# Altium schematic symbol library Keyboard2025.SCHLIB: 96 symbols
Pins are listed as number, name and electrical type; pins without a type are passive.

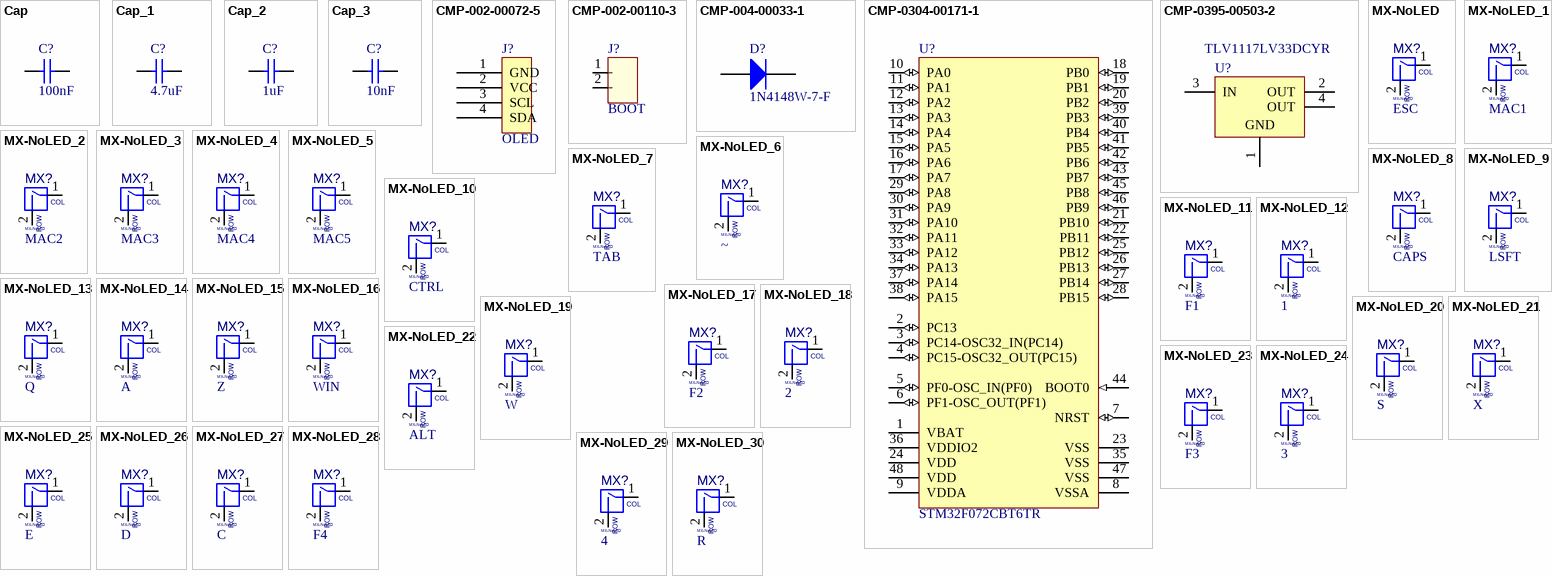
[diagram p0: symbols Cap to MX-NoLED_30]

## Cap
designator C?  value 100nF  (hidden comment: Cap)
Capacitor; Published: 8-Jun-2000; LatestRevisionDate: 17-Jul-2002; LatestRevisionNote: Re-released for DXP Platform.; PackageReference: RAD-0.3; Publisher: Altium Limited; PackageDescription: Radial Cap, Thru-Hole; 2 Leads; 0.3 in Pin Spacing
footprint RAD-0.3 (Radial Cap, Thru-Hole; 2 Leads; 0.3 in Pin Spacing)
simulation model CAP (Capacitor)
signal-integrity model Cap
footprint C0805 (Chip Capacitor, Body 2.0x1.3mm, IPC High Density)
pins: 1, 2

## Cap_1
designator C?, comment value 4.7uF  (hidden comment: Cap)
Capacitor; Published: 8-Jun-2000; LatestRevisionDate: 17-Jul-2002; LatestRevisionNote: Re-released for DXP Platform.; PackageReference: RAD-0.3; Publisher: Altium Limited; PackageDescription: Radial Cap, Thru-Hole; 2 Leads; 0.3 in Pin Spacing
footprint RAD-0.3 (Radial Cap, Thru-Hole; 2 Leads; 0.3 in Pin Spacing)
simulation model CAP (Capacitor)
signal-integrity model Cap
footprint C0805 (Chip Capacitor, Body 2.0x1.3mm, IPC High Density)
pins: 1, 2

## Cap_2
designator C?, comment value 1uF  (hidden comment: Cap)
Capacitor; Published: 8-Jun-2000; LatestRevisionDate: 17-Jul-2002; LatestRevisionNote: Re-released for DXP Platform.; PackageReference: RAD-0.3; Publisher: Altium Limited; PackageDescription: Radial Cap, Thru-Hole; 2 Leads; 0.3 in Pin Spacing
footprint RAD-0.3 (Radial Cap, Thru-Hole; 2 Leads; 0.3 in Pin Spacing)
simulation model CAP (Capacitor)
signal-integrity model Cap
footprint C0805 (Chip Capacitor, Body 2.0x1.3mm, IPC High Density)
pins: 1, 2

## Cap_3
designator C?, comment value 10nF  (hidden comment: Cap)
Capacitor; Published: 8-Jun-2000; LatestRevisionDate: 17-Jul-2002; LatestRevisionNote: Re-released for DXP Platform.; PackageReference: RAD-0.3; Publisher: Altium Limited; PackageDescription: Radial Cap, Thru-Hole; 2 Leads; 0.3 in Pin Spacing
footprint RAD-0.3 (Radial Cap, Thru-Hole; 2 Leads; 0.3 in Pin Spacing)
simulation model CAP (Capacitor)
signal-integrity model Cap
footprint C0805 (Chip Capacitor, Body 2.0x1.3mm, IPC High Density)
pins: 1, 2

## CMP-002-00072-5
designator J?, comment OLED
4 pin header; Component Type: Connectors
footprint SSD1306-0.91-OLED-4pin-128x32
pins: 1 GND, 2 VCC, 3 SCL, 4 SDA

## CMP-002-00110-3
designator J?, comment BOOT
VALUE: HDRM2; Pins: 2; Design Item ID: HDR_1X2; Component Type: Standard; Source: Conn Header.SchLib; Component Type: Connectors
footprint HDR_1X2 (Connector; Header; 2 Position)
pins: 1, 2

## CMP-004-00033-1
designator D?, comment 1N4148W-7-F
Rectifier Diode, 1 Phase, 1 Element, 0.15A, 100V V(RRM), Silicon; Manufacturer: Diodes; Forward Voltage: 715mV; Non-rep Pk Forward Current-Max: 1A; Number of Elements: 1; Time @ Peak Reflow Temperature-Max (s): 40s; Reverse Recovery Time-Max: 0.004us; Qualification Status: Not Qualified; Max Output current: 150mA; Max Power Dissipation: 400mW; Additional Feature: HIGH RELIABILITY; Package Body Material: Plastic; Min Operating Temperature: -65°C; Pins: 2; Max Operating Temperature: 150°C; RoHS Compliant: Yes; Diode Type: RECTIFIER; Peak Reflow Temperature (Cel): 260°C; Package Shape: Rectangular; Terminal Finish: Tin; Moisture Sensitivity Level: 1; Surface Mount: Yes; Reach SVHC Compliant: Yes; Diode Element Material: SILICON; JESD-30 Code: R-PDSO-G2; Terminal Form: Gull Wing; Rep Pk Reverse Voltage-Max: 100V; Terminal Position: DUAL; JESD-609 Code: e3; Package Style: SMALL OUTLINEMeter; Manufacturer Part Number: 1N4148W-7-F; Component Type: Diodes
footprint DIOD-SOD123-2_V (SOD123, 2-Leads, Body 2.7x1.55mm, Height 1.45mm)
pins: 1 A, 2 K

## CMP-0304-00171-1
designator U?, comment STM32F072CBT6TR
ARM Cortex-M0 32-bit MCU, 128 KB Flash, 16 KB Internal RAM, 37 I/Os, 48-Pin LQFP, -40 to 85 degC, Tape and Reel; FLASH Size (Prog) (kB): 128; D/A Converter: 1; Operating Frequency(F) (Processor speed) (MHz): 48; Supply Voltage(Vcc) min (V): 2; I/Os (High Current): 37; Internal RAM Size (kB): 16; ComponentLink1URL: http://www.st.com/; DatasheetVersion: Rev. 5; Mounting Technology: Surface Mount; Packing: Tape and Reel; ComponentLink2Description: Datasheet; ComponentLink2URL: http://www.st.com/st-web-ui/static/active/en/resource/technical/document/datasheet/DM00090510.pdf; ComponentLink1Description: Manufacturer URL; Package Reference: LQFP48; Core: ARM Cortex-M0; Package Description: 48-Pin Low Profile Quad Flat Package, Body 7 x 7 mm, Pitch 0.5 mm
footprint STM-LQFP48_M (QFP, 48-Leads, Body 7x7mm, Pitch 0.5mm, IPC Low Density)
footprint STM-LQFP48_N (QFP, 48-Leads, Body 7x7mm, Pitch 0.5mm, IPC Medium Density)
footprint STM-LQFP48_L (QFP, 48-Leads, Body 7x7mm, Pitch 0.5mm, IPC High Density)
pins: 1 VBAT (power) "Backup power supply", 2 PC13 (io) "PC13/WKUP2,RTC_TAMP1,RTC_TS,RTC_OUT", 3 PC14-OSC32_IN(PC14) (io) "PC14-OSC32_IN(PC14)/OSC32_IN", 4 PC15-OSC32_OUT(PC15) (io) "PC15-OSC32_OUT(PC15)/OSC_OUT", 5 PF0-OSC_IN(PF0) (io) "PF0-OSC_IN(PF0)/CRS_SYNC/OSC_IN", 6 PF1-OSC_OUT(PF1) (io) "PF1-OSC_OUT(PF1)/OSC_OUT", 7 NRST (io) "Device reset input/internal reset output(active low)", 8 VSSA (power) "Analog ground", 9 VDDA (power) "Analog power supply", 10 PA0 (io) "PA0/USART2_CTS,TIM2_CH1_ETR,COMP1_OUT,TSC_G1_IO1,USART4_TX/RTC_TAMP2,WKUP1,ADC_IN0,COMP1_INM6", 11 PA1 (io) "PA1/USART2_RTS,TIM2_CH2,TIM15_CH1N,TSC_G1_IO2,USART4_RX,EVENTOUT/ADC_IN1,COMP1_INP", 12 PA2 (io) "PA2/USART2_TX,COMP2_OUT,TIM2_CH3,TIM15_CH1,TSC_G1_IO3/ADC_IN2,COMP2_INM6,WKUP4", 13 PA3 (io) "PA3/USART2_RX,TIM2_CH4,TIM15_CH2,TSC_G1_IO4/ADC_IN3,COMP2_INP", 14 PA4 (io) "PA4/SPI1_NSS,I2S1_WS,TIM14_CH1,TSC_G2_IO1,USART2_CK/COMP1_INM4,COMP2_INM4,ADC_IN4,DAC_OUT1", 15 PA5 (io) "PA5/SPI1_SCK,I2S1_CK,CEC,TIM2_CH1_ETR,TSC_G2_IO2/COMP1_INM5,COMP2_INM5,ADC_IN5,DAC_OUT2", 16 PA6 (io) "PA6/SPI1_MISO,I2S1_MCK,TIM3_CH1,TIM1_BKIN,TIM16_CH1,COMP1_OUT,TSC_G2_IO3,EVENTOUT,USART3_CTS/ADC_IN6", 17 PA7 (io) "PA7/SPI1_MOSI,I2S1_SD,TIM3_CH2,TIM14_CH1,TIM1_CH1N,TIM17_CH1,COMP2_OUT,TSC_G2_IO4,EVENTOUT/ADC_IN7", 18 PB0 (io) "PB0/TIM3_CH3,TIM1_CH2N,TSC_G3_IO2,EVENTOUT,USART3_CK/ADC_IN8", 19 PB1 (io) "PB1/TIM3_CH4,USART3_RTS,TIM14_CH1,TIM1_CH3N,TSC_G3_IO3/ADC_IN9", 20 PB2 (io) "PB2/TSC_G3_IO4", 21 PB10 (io) "PB10/SPI2_SCK,I2C2_SCL,USART3_TX,CEC,TSC_SYNC,TIM2_CH3", 22 PB11 (io) "PB11/USART3_RX,TIM2_CH4,EVENTOUT,TSC_G6_IO1,I2C2_SDA", 23 VSS (power) "Ground", 24 VDD (power) "Digital power supply", 25 PB12 (io) "PB12/TIM1_BKIN,TIM15_BKIN,SPI2_NSS,I2S2_WS,USART3_CK,TSC_G6_IO2,EVENTOUT", 26 PB13 (io) "PB13/SPI2_SCK,I2S2_CK,I2C2_SCL,USART3_CTS,TIM1_CH1N,TSC_G6_IO3", 27 PB14 (io) "PB14/SPI2_MISO,I2S2_MCK,I2C2_SDA,USART3_RTS,TIM1_CH2N,TIM15_CH1,TSC_G6_IO4", 28 PB15 (io) "PB15/SPI2_MOSI,I2S2_SD,TIM1_CH3N,TIM15_CH1N,TIM15_CH2/WKUP7,RTC_REFIN", 29 PA8 (io) "PA8/USART1_CK,TIM1_CH1,EVENTOUT,MCO,CRS_SYNC", 30 PA9 (io) "PA9/USART1_TX,TIM1_CH2,TIM15_BKIN,TSC_G4_IO1", 31 PA10 (io) "PA10/USART1_RX,TIM1_CH3,TIM17_BKIN,TSC_G4_IO2", 32 PA11 (io) "PA11/CAN_RX,USART1_CTS,TIM1_CH4,COMP1_OUT,TSC_G4_IO3,EVENTOUT/USB_DM", 33 PA12 (io) "PA12/CAN_TX,USART1_RTS,TIM1_ETR,COMP2_OUT,TSC_G4_IO4,EVENTOUT/USB_DP", 34 PA13 (io) "PA13/IR_OUT,SWDIO,USB_NOE", 35 VSS (power) "Ground", 36 VDDIO2 (power) "Digital power supply", 37 PA14 (io) "PA14/USART2_TX,SWCLK", 38 PA15 (io) "PA15/SPI1_NSS,I2S1_WS,USART2_RX,USART4_RTS,TIM2_CH1_ETR,EVENTOUT", 39 PB3 (io) "PB3/SPI1_SCK,I2S1_CK,TIM2_CH2,TSC_G5_IO1,EVENTOUT", 40 PB4 (io) "PB4/SPI1_MISO,I2S1_MCK,TIM17_BKIN,TIM3_CH1,TSC_G5_IO2,EVENTOUT", 41 PB5 (io) "PB5/SPI1_MOSI,I2S1_SD,I2C1_SMBA,TIM16_BKIN,TIM3_CH2/WKUP6", 42 PB6 (io) "PB6/I2C1_SCL,USART1_TX,TIM16_CH1N,TSC_G5_IO3", 43 PB7 (io) "PB7/I2C1_SDA,USART1_RX,USART4_CTS,TIM17_CH1N,TSC_G5_IO4", 44 BOOT0 (in) "Boot memory selection", 45 PB8 (io) "PB8/I2C1_SCL,CEC,TIM16_CH1,TSC_SYNC,CAN_RX", 46 PB9 (io) "PB9/SPI2_NSS,I2S2_WS,I2C1_SDA,IR_OUT,TIM17_CH1,EVENTOUT,CAN_TX", 47 VSS (power) "Ground", 48 VDD (power) "Digital power supply"

## CMP-0395-00503-2
designator U?, comment TLV1117LV33DCYR
Single Output LDO, 1 A, Fixed 3.3 V Output, 2 to 5.5 V Input, 4-pin SOT-223 (DCY), -40 to 125 degC, Green (RoHS & no Sb/Br); Manufacturer: Texas Instruments; Vout Adj(Min)(V): 3.3; Vdo(Typ)(mV): 1200; Iq(Typ)(mA): 0.05; Accuracy(%): 2; Iout(Max)(A): 1; SubFamily: Single Channel LDO; Vin(Max)(V): 5.5; PackageReference: DCY0004A; PackageDescription: 4-Pin Plastic Small Outline, Body 3.5 x 6.5 mm, Pitch 2.3 mm; Vout Adj(Max)(V): 3.3; Mounting Technology: Surface Mount; ComponentLink2Description: Datasheet; ComponentLink1Description: Manufacturer URL; PartNumber: TLV1117LV33DCYR; ComponentLink3Description: Package Specification; ComponentLink1URL: http://www.ti.com/; ComponentLink2URL: http://www.ti.com/general/docs/lit/getliterature.tsp?genericPartNumber=TLV1117LV33&fileType=pdf; Fixed Output Options(V): 3.3; PackageVersion: 4202506/B; Vin(Min)(V): 2; DatasheetVersion: SBVS160A; Eco-Plan: Green (RoHS & no Sb/Br); ComponentLink3URL: http://www.ti.com/litv/pdf/mpds094a; Code_JEDEC: TO-261
footprint DCY0004A_N (SOT223, 4-Leads, Body 6.7x3.7mm, Pitch 2.3mm, IPC Medium Density)
footprint DCY0004A_L (SOT223, 4-Leads, Body 6.7x3.7mm, Pitch 2.3mm, IPC High Density)
footprint DCY0004A_M (SOT223, 4-Leads, Body 6.7x3.7mm, Pitch 2.3mm, IPC Low Density)
pins: 1 GND (power) "Ground pin", 2 OUT (power) "Regulated output voltage pin.", 3 IN (power) "Input pin.", 4 OUT (power) "Regulated output voltage pin."

## MX-NoLED
designator MX?, comment ESC  value MX-NoLED
footprint MXOnly-1U - duplicate
pins: 1 COL, 2 ROW

## MX-NoLED_1
designator MX?, comment MAC1  value MX-NoLED
footprint MXOnly-1U - duplicate
pins: 1 COL, 2 ROW

## MX-NoLED_2
designator MX?, comment MAC2  value MX-NoLED
footprint MXOnly-1U - duplicate
pins: 1 COL, 2 ROW

## MX-NoLED_3
designator MX?, comment MAC3  value MX-NoLED
footprint MXOnly-1U - duplicate
pins: 1 COL, 2 ROW

## MX-NoLED_4
designator MX?, comment MAC4  value MX-NoLED
footprint MXOnly-1U - duplicate
pins: 1 COL, 2 ROW

## MX-NoLED_5
designator MX?, comment MAC5  value MX-NoLED
footprint MXOnly-1U - duplicate
pins: 1 COL, 2 ROW

## MX-NoLED_6
designator MX?, comment ~  value MX-NoLED
footprint MXOnly-1U - duplicate
pins: 1 COL, 2 ROW

## MX-NoLED_7
designator MX?, comment TAB  value MX-NoLED
footprint MXOnly-1U - duplicate
footprint MXOnly-1.5U - duplicate
pins: 1 COL, 2 ROW

## MX-NoLED_8
designator MX?, comment CAPS  value MX-NoLED
footprint MXOnly-1U - duplicate
footprint MXOnly-1.75U - duplicate
pins: 1 COL, 2 ROW

## MX-NoLED_9
designator MX?, comment LSFT  value MX-NoLED
footprint MXOnly-1U - duplicate
footprint MXOnly-2.25U - duplicate
pins: 1 COL, 2 ROW

## MX-NoLED_10
designator MX?, comment CTRL  value MX-NoLED
footprint MXOnly-1.25U - duplicate
pins: 1 COL, 2 ROW

## MX-NoLED_11
designator MX?, comment F1  value MX-NoLED
footprint MXOnly-1U - duplicate
pins: 1 COL, 2 ROW

## MX-NoLED_12
designator MX?, comment 1  value MX-NoLED
footprint MXOnly-1U - duplicate
pins: 1 COL, 2 ROW

## MX-NoLED_13
designator MX?, comment Q  value MX-NoLED
footprint MXOnly-1U - duplicate
pins: 1 COL, 2 ROW

## MX-NoLED_14
designator MX?, comment A  value MX-NoLED
footprint MXOnly-1U - duplicate
pins: 1 COL, 2 ROW

## MX-NoLED_15
designator MX?, comment Z  value MX-NoLED
footprint MXOnly-1U - duplicate
pins: 1 COL, 2 ROW

## MX-NoLED_16
designator MX?, comment WIN  value MX-NoLED
footprint MXOnly-1.25U - duplicate
pins: 1 COL, 2 ROW

## MX-NoLED_17
designator MX?, comment F2  value MX-NoLED
footprint MXOnly-1U - duplicate
pins: 1 COL, 2 ROW

## MX-NoLED_18
designator MX?, comment 2  value MX-NoLED
footprint MXOnly-1U - duplicate
pins: 1 COL, 2 ROW

## MX-NoLED_19
designator MX?, comment W  value MX-NoLED
footprint MXOnly-1U - duplicate
pins: 1 COL, 2 ROW

## MX-NoLED_20
designator MX?, comment S  value MX-NoLED
footprint MXOnly-1U - duplicate
pins: 1 COL, 2 ROW

## MX-NoLED_21
designator MX?, comment X  value MX-NoLED
footprint MXOnly-1U - duplicate
pins: 1 COL, 2 ROW

## MX-NoLED_22
designator MX?, comment ALT  value MX-NoLED
footprint MXOnly-1.25U - duplicate
pins: 1 COL, 2 ROW

## MX-NoLED_23
designator MX?, comment F3  value MX-NoLED
footprint MXOnly-1U - duplicate
pins: 1 COL, 2 ROW

## MX-NoLED_24
designator MX?, comment 3  value MX-NoLED
footprint MXOnly-1U - duplicate
pins: 1 COL, 2 ROW

## MX-NoLED_25
designator MX?, comment E  value MX-NoLED
footprint MXOnly-1U - duplicate
pins: 1 COL, 2 ROW

## MX-NoLED_26
designator MX?, comment D  value MX-NoLED
footprint MXOnly-1U - duplicate
pins: 1 COL, 2 ROW

## MX-NoLED_27
designator MX?, comment C  value MX-NoLED
footprint MXOnly-1U - duplicate
pins: 1 COL, 2 ROW

## MX-NoLED_28
designator MX?, comment F4  value MX-NoLED
footprint MXOnly-1U - duplicate
pins: 1 COL, 2 ROW

## MX-NoLED_29
designator MX?, comment 4  value MX-NoLED
footprint MXOnly-1U - duplicate
pins: 1 COL, 2 ROW

## MX-NoLED_30
designator MX?, comment R  value MX-NoLED
footprint MXOnly-1U - duplicate
pins: 1 COL, 2 ROW

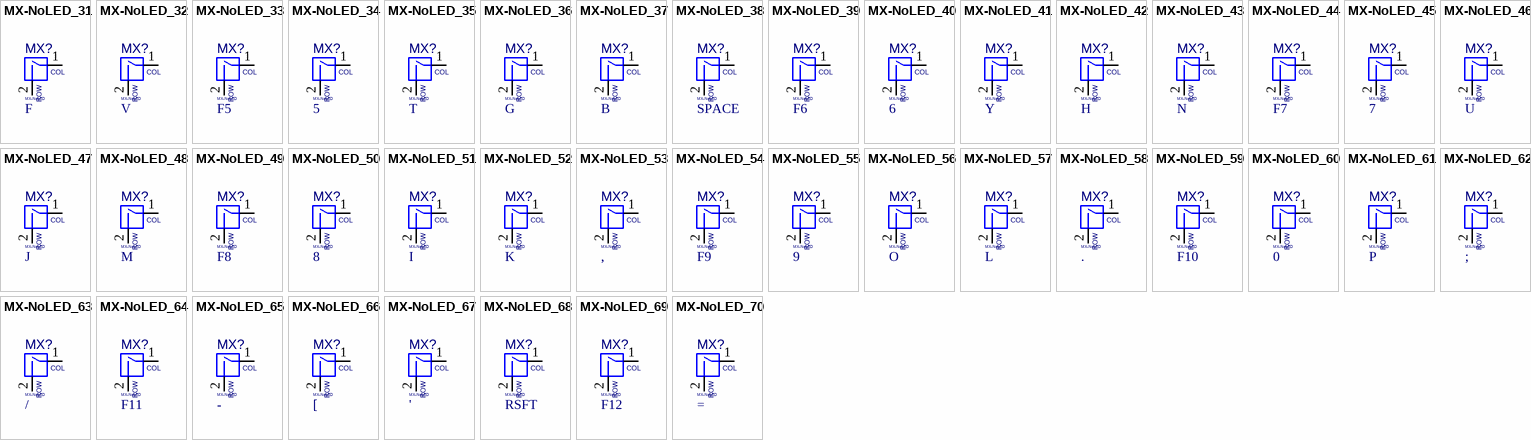
[diagram p1: symbols MX-NoLED_31 to MX-NoLED_70]

## MX-NoLED_31
designator MX?, comment F  value MX-NoLED
footprint MXOnly-1U - duplicate
pins: 1 COL, 2 ROW

## MX-NoLED_32
designator MX?, comment V  value MX-NoLED
footprint MXOnly-1U - duplicate
pins: 1 COL, 2 ROW

## MX-NoLED_33
designator MX?, comment F5  value MX-NoLED
footprint MXOnly-1U - duplicate
pins: 1 COL, 2 ROW

## MX-NoLED_34
designator MX?, comment 5  value MX-NoLED
footprint MXOnly-1U - duplicate
pins: 1 COL, 2 ROW

## MX-NoLED_35
designator MX?, comment T  value MX-NoLED
footprint MXOnly-1U - duplicate
pins: 1 COL, 2 ROW

## MX-NoLED_36
designator MX?, comment G  value MX-NoLED
footprint MXOnly-1U - duplicate
pins: 1 COL, 2 ROW

## MX-NoLED_37
designator MX?, comment B  value MX-NoLED
footprint MXOnly-1U - duplicate
pins: 1 COL, 2 ROW

## MX-NoLED_38
designator MX?, comment SPACE  value MX-NoLED
footprint MXOnly-1U - duplicate
footprint MXOnly-6.25U-ReversedStabilizers - duplicate
pins: 1 COL, 2 ROW

## MX-NoLED_39
designator MX?, comment F6  value MX-NoLED
footprint MXOnly-1U - duplicate
pins: 1 COL, 2 ROW

## MX-NoLED_40
designator MX?, comment 6  value MX-NoLED
footprint MXOnly-1U - duplicate
pins: 1 COL, 2 ROW

## MX-NoLED_41
designator MX?, comment Y  value MX-NoLED
footprint MXOnly-1U - duplicate
pins: 1 COL, 2 ROW

## MX-NoLED_42
designator MX?, comment H  value MX-NoLED
footprint MXOnly-1U - duplicate
pins: 1 COL, 2 ROW

## MX-NoLED_43
designator MX?, comment N  value MX-NoLED
footprint MXOnly-1U - duplicate
pins: 1 COL, 2 ROW

## MX-NoLED_44
designator MX?, comment F7  value MX-NoLED
footprint MXOnly-1U - duplicate
pins: 1 COL, 2 ROW

## MX-NoLED_45
designator MX?, comment 7  value MX-NoLED
footprint MXOnly-1U - duplicate
pins: 1 COL, 2 ROW

## MX-NoLED_46
designator MX?, comment U  value MX-NoLED
footprint MXOnly-1U - duplicate
pins: 1 COL, 2 ROW

## MX-NoLED_47
designator MX?, comment J  value MX-NoLED
footprint MXOnly-1U - duplicate
pins: 1 COL, 2 ROW

## MX-NoLED_48
designator MX?, comment M  value MX-NoLED
footprint MXOnly-1U - duplicate
pins: 1 COL, 2 ROW

## MX-NoLED_49
designator MX?, comment F8  value MX-NoLED
footprint MXOnly-1U - duplicate
pins: 1 COL, 2 ROW

## MX-NoLED_50
designator MX?, comment 8  value MX-NoLED
footprint MXOnly-1U - duplicate
pins: 1 COL, 2 ROW

## MX-NoLED_51
designator MX?, comment I  value MX-NoLED
footprint MXOnly-1U - duplicate
pins: 1 COL, 2 ROW

## MX-NoLED_52
designator MX?, comment K  value MX-NoLED
footprint MXOnly-1U - duplicate
pins: 1 COL, 2 ROW

## MX-NoLED_53
designator MX?, comment ,  value MX-NoLED
footprint MXOnly-1U - duplicate
pins: 1 COL, 2 ROW

## MX-NoLED_54
designator MX?, comment F9  value MX-NoLED
footprint MXOnly-1U - duplicate
pins: 1 COL, 2 ROW

## MX-NoLED_55
designator MX?, comment 9  value MX-NoLED
footprint MXOnly-1U - duplicate
pins: 1 COL, 2 ROW

## MX-NoLED_56
designator MX?, comment O  value MX-NoLED
footprint MXOnly-1U - duplicate
pins: 1 COL, 2 ROW

## MX-NoLED_57
designator MX?, comment L  value MX-NoLED
footprint MXOnly-1U - duplicate
pins: 1 COL, 2 ROW

## MX-NoLED_58
designator MX?, comment .  value MX-NoLED
footprint MXOnly-1U - duplicate
pins: 1 COL, 2 ROW

## MX-NoLED_59
designator MX?, comment F10  value MX-NoLED
footprint MXOnly-1U - duplicate
pins: 1 COL, 2 ROW

## MX-NoLED_60
designator MX?, comment 0  value MX-NoLED
footprint MXOnly-1U - duplicate
pins: 1 COL, 2 ROW

## MX-NoLED_61
designator MX?, comment P  value MX-NoLED
footprint MXOnly-1U - duplicate
pins: 1 COL, 2 ROW

## MX-NoLED_62
designator MX?, comment ;  value MX-NoLED
footprint MXOnly-1U - duplicate
pins: 1 COL, 2 ROW

## MX-NoLED_63
designator MX?, comment /  value MX-NoLED
footprint MXOnly-1U - duplicate
pins: 1 COL, 2 ROW

## MX-NoLED_64
designator MX?, comment F11  value MX-NoLED
footprint MXOnly-1U - duplicate
pins: 1 COL, 2 ROW

## MX-NoLED_65
designator MX?, comment -  value MX-NoLED
footprint MXOnly-1U - duplicate
pins: 1 COL, 2 ROW

## MX-NoLED_66
designator MX?, comment [  value MX-NoLED
footprint MXOnly-1U - duplicate
pins: 1 COL, 2 ROW

## MX-NoLED_67
designator MX?, comment '  value MX-NoLED
footprint MXOnly-1U - duplicate
pins: 1 COL, 2 ROW

## MX-NoLED_68
designator MX?, comment RSFT  value MX-NoLED
footprint MXOnly-1.75U - duplicate
pins: 1 COL, 2 ROW

## MX-NoLED_69
designator MX?, comment F12  value MX-NoLED
footprint MXOnly-1U - duplicate
pins: 1 COL, 2 ROW

## MX-NoLED_70
designator MX?  value MX-NoLED
footprint MXOnly-1U - duplicate
pins: 1 COL, 2 ROW

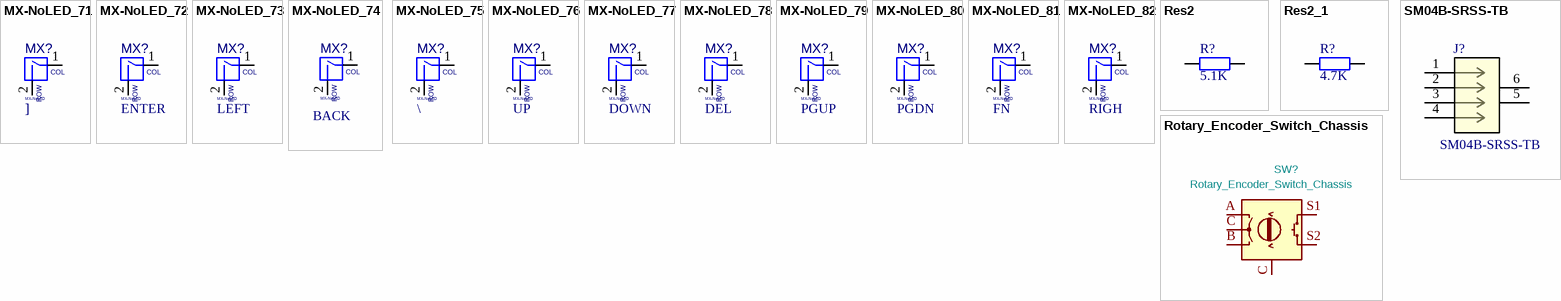
[diagram p2: symbols MX-NoLED_71 to SM04B-SRSS-TB]

## MX-NoLED_71
designator MX?, comment ]  value MX-NoLED
footprint MXOnly-1U - duplicate
pins: 1 COL, 2 ROW

## MX-NoLED_72
designator MX?, comment ENTER  value MX-NoLED
footprint MXOnly-1U - duplicate
footprint MXOnly-2.25U - duplicate
pins: 1 COL, 2 ROW

## MX-NoLED_73
designator MX?, comment LEFT  value MX-NoLED
footprint MXOnly-1U - duplicate
pins: 1 COL, 2 ROW

## MX-NoLED_74
designator MX?, comment BACK  value MX-NoLED
footprint MXOnly-1U - duplicate
footprint MXOnly-2U - duplicate
pins: 1 COL, 2 ROW

## MX-NoLED_75
designator MX?, comment \  value MX-NoLED
footprint MXOnly-1U - duplicate
footprint MXOnly-1.5U - duplicate
pins: 1 COL, 2 ROW

## MX-NoLED_76
designator MX?, comment UP  value MX-NoLED
footprint MXOnly-1U - duplicate
pins: 1 COL, 2 ROW

## MX-NoLED_77
designator MX?, comment DOWN  value MX-NoLED
footprint MXOnly-1U - duplicate
pins: 1 COL, 2 ROW

## MX-NoLED_78
designator MX?, comment DEL  value MX-NoLED
footprint MXOnly-1U - duplicate
pins: 1 COL, 2 ROW

## MX-NoLED_79
designator MX?, comment PGUP  value MX-NoLED
footprint MXOnly-1U - duplicate
pins: 1 COL, 2 ROW

## MX-NoLED_80
designator MX?, comment PGDN  value MX-NoLED
footprint MXOnly-1U - duplicate
pins: 1 COL, 2 ROW

## MX-NoLED_81
designator MX?, comment FN  value MX-NoLED
footprint MXOnly-1U - duplicate
pins: 1 COL, 2 ROW

## MX-NoLED_82
designator MX?, comment RIGH  value MX-NoLED
footprint MXOnly-1U - duplicate
pins: 1 COL, 2 ROW

## Res2
designator R?  value 5.1K  (hidden comment: Res2)
Resistor; Published: 8-Jun-2000; LatestRevisionDate: 17-Jul-2002; LatestRevisionNote: Re-released for DXP Platform.; PackageReference: AXIAL-0.4; Publisher: Altium Limited; PackageDescription: Axial Device, Thru-Hole; 2 Leads; 0.4 in Pin Spacing
footprint 6-0805_M (Chip Resistor, Body 2.0x1.2mm, IPC Low Density)
simulation model RESISTOR (Resistor)
signal-integrity model Res
pins: 1, 2

## Res2_1
designator R?, comment value 4.7K  (hidden comment: Res2)
Resistor; Published: 8-Jun-2000; LatestRevisionDate: 17-Jul-2002; LatestRevisionNote: Re-released for DXP Platform.; PackageReference: AXIAL-0.4; Publisher: Altium Limited; PackageDescription: Axial Device, Thru-Hole; 2 Leads; 0.4 in Pin Spacing
footprint 6-0805_M (Chip Resistor, Body 2.0x1.2mm, IPC Low Density)
simulation model RESISTOR (Resistor)
signal-integrity model Res
pins: 1, 2

## Rotary_Encoder_Switch_Chassis
designator SW?
Footprint: acheronHardware:ALPS_EC11E; Value: Rotary_Encoder_Switch_Chassis
footprint ALPS_EC11E
footprint RotaryEncoder_Alps_EC11E-Switch_Vertical_H20mm
footprint RotaryEncoder_Alps_EC11E-Switch_Vertical_H20mm
pins: A, B, C Shield, C, S1, S2

## SM04B-SRSS-TB
designator J?
No Description Available; Mfr_Name: JST; RefDes: RefDes; Type: Type
footprint CONN_SM04B-SRSS-TB_JST
footprint JST-SR-4
footprint JST-SR-4
pins: 1, 2, 3, 4, 5 MOUNT, 6 MOUNT